# EAGLE library part SKY65116 (library psas_c3_team05)
SKYWORK SKY65116 LINEAR POWER AMPLIFIER
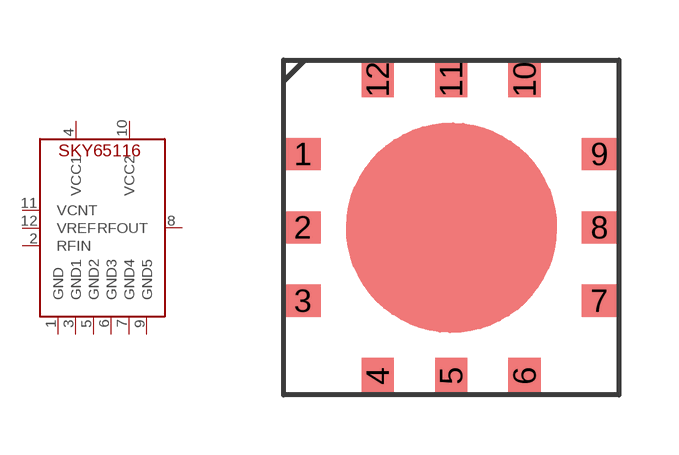
[diagram p11: symbol with the pads of SKY65116; footprint SKY65116]

Designator prefix -

## SKY65116  [SKY65116]
1  GND
2  RFIN  in
3  GND1
4  VCC1  pwr
5  GND2
6  GND3
7  GND4
8  RFOUT  out
9  GND5
10  VCC2  pwr
11  VCNT  pwr
12  VREF  pwr

## Footprint SKY65116 (pad centres in mm)
smd 0.893 x 0.81: 1 -3.835,1.708; 2 -3.835,-0.129; 3 -3.835,-1.964; 7 3.581,-1.964; 8 3.581,-0.129; 9 3.581,1.708
smd 0.81 x 0.893: 4 -1.962,-3.836; 5 -0.126,-3.836; 6 1.71,-3.836; 10 1.71,3.579; 11 -0.126,3.579; 12 -1.962,3.579